# EAGLE library part PIEZO_STATOR_10MM (library MakBit)
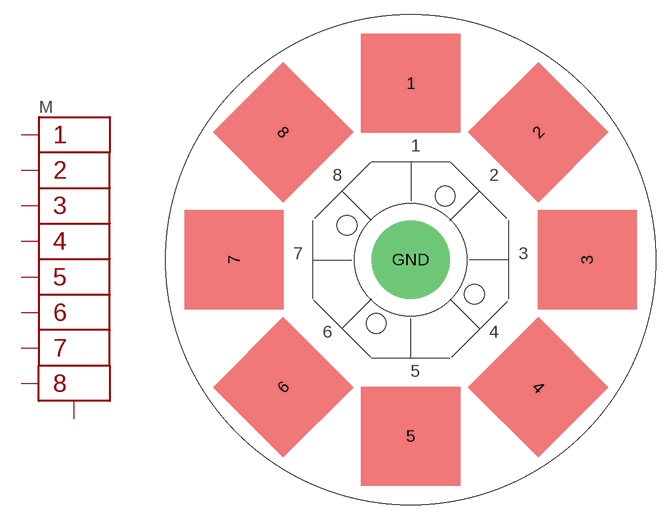
[diagram p26: symbol with the pads of PIEZO_STATOR_10X10; footprint PIEZO_STATOR_10X10]

Designator prefix M

## PIEZO_STATOR_10MM  [PIEZO_STATOR_10X10]
1  P$1
2  P$2
3  P$3
4  P$4
5  P$5
6  P$6
7  P$7
8  P$8
GND  GND  pwr

## Footprint PIEZO_STATOR_10X10 (pad centres in mm)
smd 10.1 x 10.1: 1 0,18; 3 18,0; 5 0,-18; 7 -18,0
smd 10.1 x 10.1 rotated 45: 2 13,13
smd 10.1 x 10.1 rotated 135: 4 13,-13
smd 10.1 x 10.1 rotated 225: 6 -13,-13
smd 10.1 x 10.1 rotated 315: 8 -13,13
drill 5 pad 8: GND 0,0
hole 2 at -6.5,3.5
hole 2 at -3.5,-6.5
hole 2 at 3.5,6.5
hole 2 at 6.5,-3.5